# EAGLE library part EE2-*T? (library home)
TX Relay 2 coil latching 2 AMP. HIGH CAPACITY RELAY WITH HIGH SURGE VOLTAGE & HIGH BREAKDOWN VOLTAGE Source: http://www.mew-europe.com/.. en_ds_61022_0001.pdf TX-S SMALL POLARIZED WITH HIGH SENSITIVITY 50mW Source: http://www.mew-europe.com/.. en_ds_61022_0022.pdf
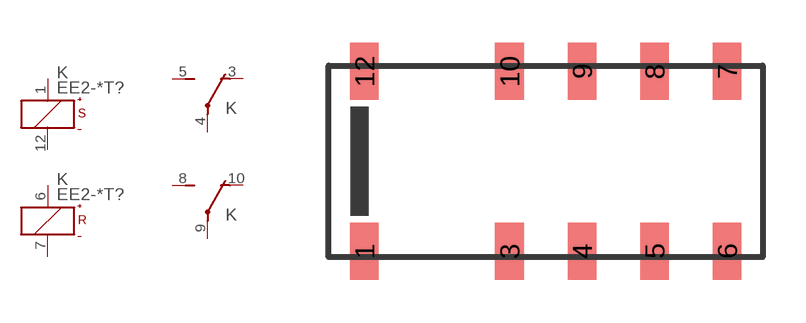
[diagram p1: symbol with the pads of NUH; footprint NUH]

Designator prefix K; gates S=K+-S R=K+-R 1=U 2=U

## EE2-12TNUH (PN: EE2-12TNUH), EE2-24TNUH (PN: EE2-24TNUH), EE2-3TNUH (PN: EE2-3TNUH), EE2-4.5TNUH (PN: EE2-4.5TNUH), EE2-5TNUH (PN: EE2-5TNUH)  [NUH]
1  S:+  pas
3  1:O  pas
4  1:P  pas
5  1:S  pas
6  R:+  pas
7  R:-  pas
8  2:S  pas
9  2:P  pas
10  2:O  pas
12  S:-  pas

## Footprint NUH (pad centres in mm)
2 AMP. HIGH CAPACITY RELAY WITH HIGH SURGE VOLTAGE & HIGH BREAKDOWN VOLTAGE 2 coil latching
smd 1 x 2: 1 -6.35,-3.145; 3 -1.27,-3.145; 4 1.27,-3.145; 5 3.81,-3.145; 6 6.35,-3.145; 7 6.35,3.145; 8 3.81,3.145; 9 1.27,3.145; 10 -1.27,3.145; 12 -6.35,3.145